# Altium schematic symbol library G218CMF.SchLib: 1 symbol
Pins are listed as number, name and electrical type; pins without a type are passive.

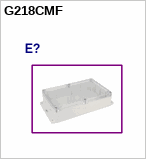
[diagram p0: symbol G218CMF]

## G218CMF
designator E?, comment p  (value not drawn)